# Altium schematic symbol library coral-baseboard.SchLib: 52 symbols
Pins are listed as number, name and electrical type; pins without a type are passive.

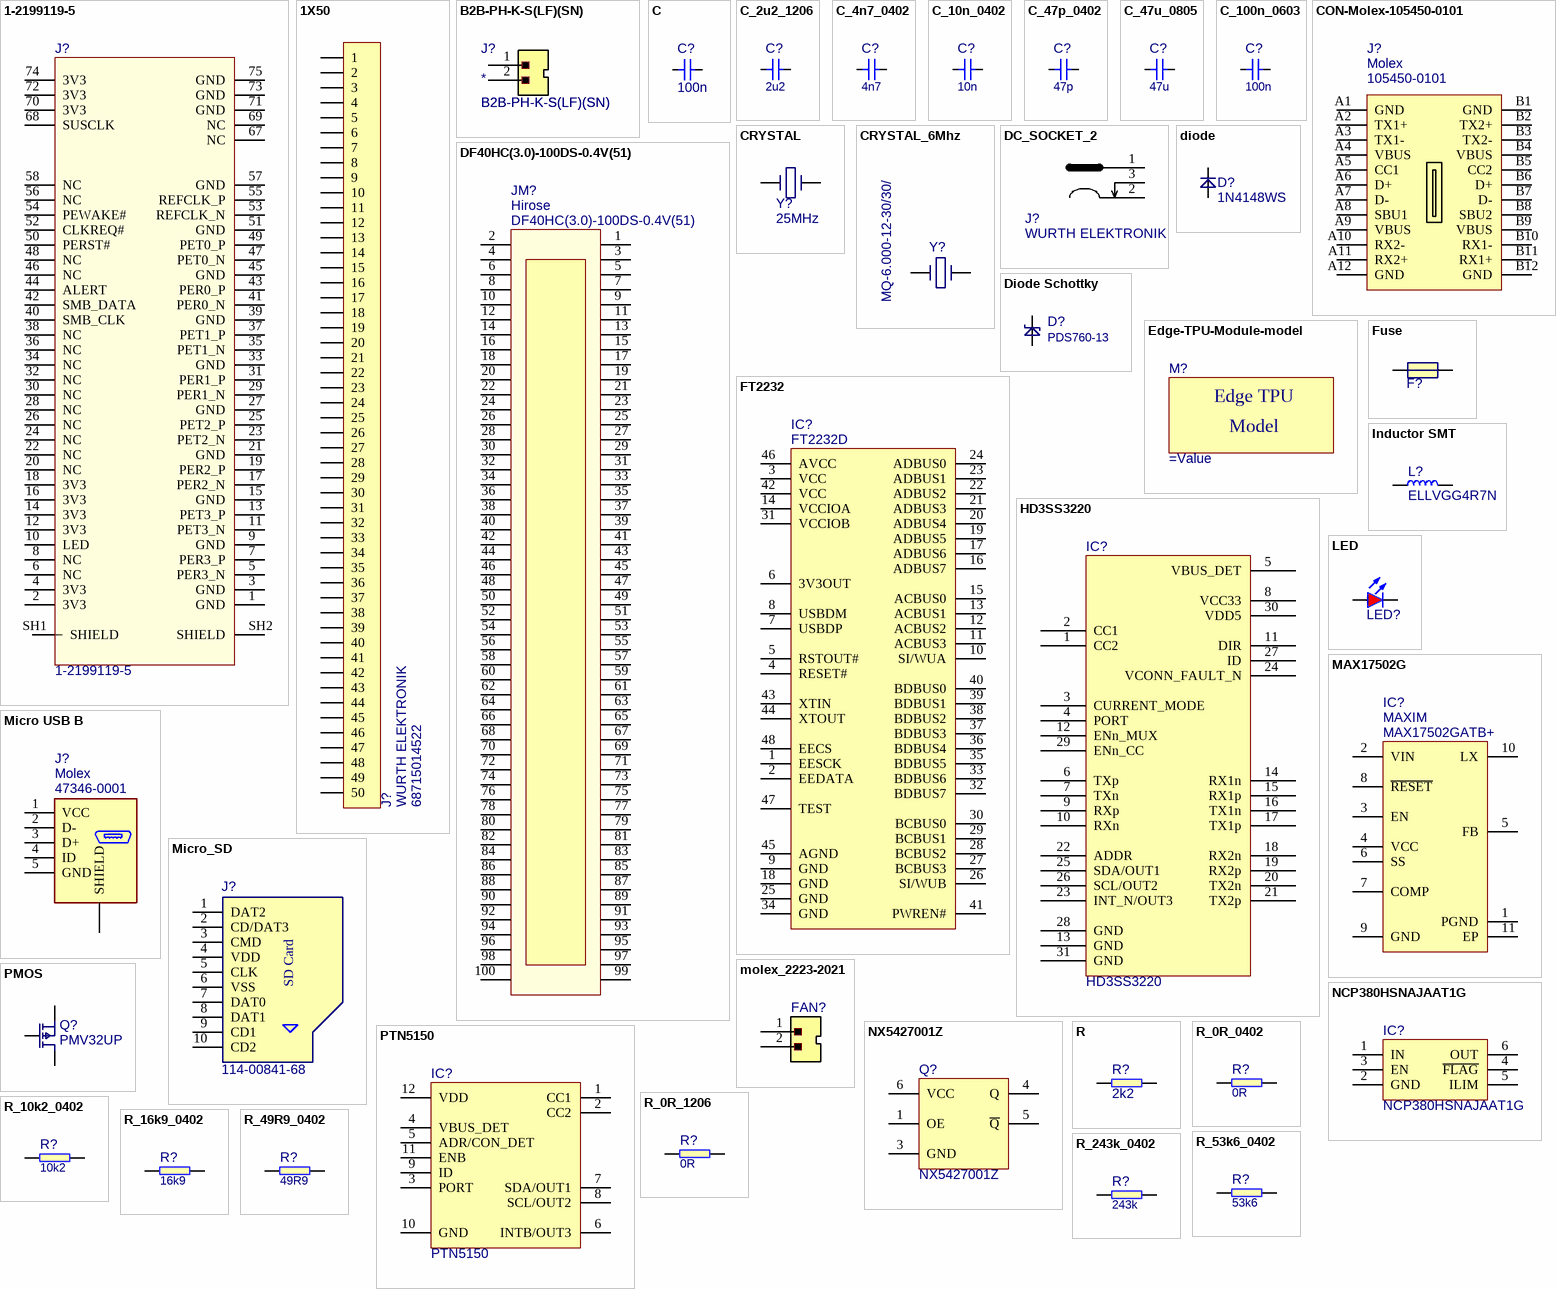
[diagram p0: symbols 1-2199119-5 to R_243k_0402]

## 1-2199119-5
designator J?
CONN FEMALE 67POS 0.020 GOLD; Manufacturer: TE; PartNumber: 1-2199119-5; Value: 1-2199119-5
footprint 1-2199119-5
pins: 1 GND, 2 3V3, 3 GND, 4 3V3, 5 PER3_N, 6 NC, 7 PER3_P, 8 NC, 9 GND, 10 LED, 11 PET3_N, 12 3V3, 13 PET3_P, 14 3V3, 15 GND, 16 3V3, 17 PER2_N, 18 3V3, 19 PER2_P, 20 NC, 21 GND, 22 NC, 23 PET2_N, 24 NC, 25 PET2_P, 26 NC, 27 GND, 28 NC, 29 PER1_N, 30 NC, 31 PER1_P, 32 NC, 33 GND, 34 NC, 35 PET1_N, 36 NC, 37 PET1_P, 38 NC, 39 GND, 40 SMB_CLK, 41 PER0_N, 42 SMB_DATA, 43 PER0_P, 44 ALERT, 45 GND, 46 NC, 47 PET0_N, 48 NC, 49 PET0_P, 50 PERST#, 51 GND, 52 CLKREQ#, 53 REFCLK_N, 54 PEWAKE#, 55 REFCLK_P, 56 NC, 57 GND, 58 NC, 67 NC, 68 SUSCLK, 69 NC, 70 3V3, 71 GND, 72 3V3, 73 GND, 74 3V3, 75 GND, SH1 SHIELD, SH2 SHIELD

## 1X50
designator J?, comment 68715014522  Manufacturer: WURTH ELEKTRONIK
0.50mm SMT ZIF Horizontal Bottom Contact WR-FPC; Value: 68715014522; PartNumber: 68715014522
footprint 68715014522
pins: 1, 2, 3, 4, 5, 6, 7, 8, 9, 10, 11, 12, 13, 14, 15, 16, 17, 18, 19, 20, 21, 22, 23, 24, 25, 26, 27, 28, 29, 30, 31, 32, 33, 34, 35, 36, 37, 38, 39, 40, 41, 42, 43, 44, 45, 46, 47, 48, 49, 50

## B2B-PH-K-S(LF)(SN)
designator J?  value B2B-PH-K-S(LF)(SN)  PartNumber: B2B-PH-K-S(LF)(SN)
Manufacturer: JST
footprint B2B-PH-K-S(LF)(SN) (CONN HEADER VERT 2POS 2MM)
pins: 1, 2

## C
designator C?, comment 100n
MLCC SMT Capacitor 100nF 0402; PartNumber: C_100n_0402; Value: 100n
footprint 0402
pins: 1, 2
1 alternate drawing of the same symbol

## C_2u2_1206
designator C?, comment 2u2
MLCC SMT Capacitor 2.2uF 1206; PartNumber: C_2u2_1206; Value: 2u2
footprint 1206
pins: 1, 2
1 alternate drawing of the same symbol

## C_4n7_0402
designator C?, comment 4n7
MLCC SMT Capacitor 4.7 nF 0402; PartNumber: C_4n7_0402; Value: 4n7
footprint 0402
pins: 1, 2
1 alternate drawing of the same symbol

## C_10n_0402
designator C?, comment 10n
MLCC SMT Capacitor 10 nF 0402; PartNumber: C_10n_0402; Value: 10n
footprint 0402
pins: 1, 2
1 alternate drawing of the same symbol

## C_47p_0402
designator C?, comment 47p
MLCC SMT Capacitor 47pF 0402; PartNumber: C_47p_0402; Value: 47p
footprint 0402
pins: 1, 2
1 alternate drawing of the same symbol

## C_47u_0805
designator C?, comment 47u
MLCC SMT Capacitor 47uF 0805; PartNumber: C_47u_0805; Value: 47u
footprint 0805
pins: 1, 2
1 alternate drawing of the same symbol

## C_100n_0603
designator C?, comment 100n
MLCC SMT Capacitor 100nF 0603; PartNumber: C_100n_0603; Value: 100n
footprint 0603 (Chip Inductor Ferrite Bead 0603)
pins: 1, 2
1 alternate drawing of the same symbol

## CON-Molex-105450-0101
designator J?, comment 105450-0101  Manufacturer: Molex
USB-C connector; PartNumber: 105450-0101; Value: 105450-0101
footprint CON-Molex-105450-0101
pins: A1 GND, A2 TX1+, A3 TX1-, A4 VBUS, A5 CC1, A6 D+, A7 D-, A8 SBU1, A9 VBUS, A10 RX2-, A11 RX2+, A12 GND, B1 GND, B2 TX2+, B3 TX2-, B4 VBUS, B5 CC2, B6 D+, B7 D-, B8 SBU2, B9 VBUS, B10 RX1-, B11 RX1+, B12 GND

## CRYSTAL
designator Y?, comment 25MHz
CRYSTAL, 25.000MHZ; PartNumber: CRYSTAL_25MHz_SMD_TXC; Manufacturer: TXC; Value: 25MHz
footprint TXC_7A
pins: 1, 2

## CRYSTAL_6Mhz
designator Y?, comment MQ-6.000-12-30/30/
CRYSTAL, 6MHZ, 12PF, SMD,30ppm; PartNumber: CRYSTAL_6_MHz_SMD; Manufacturer: MERCURY UNITED ELECTRONICS; Value: MQ-6.000-12-30/30/
footprint Crystal_5x7mm
pins: 1, 3

## DC_SOCKET_2
designator J?, comment Manufacturer: WURTH ELEKTRONIK  (hidden comment: 694106106102)
DC Power Jack Right Angled SMT Ø6.4 with 4 soldering pads & pegs WR-DC; Value: 694106106102; PartNumber: 694106106102
footprint 694106106102
pins: 1, 2, 3

## DF40HC(3.0)-100DS-0.4V(51)
designator JM?  Manufacturer: Hirose
CONN RCPT 100POS 0.4MM SMD GOLD; PartNumber: DF40HC(3.0)-100DS-0.4V(51); Value: DF40HC(3.0)-100DS-0.4V(51)
footprint DF40HC(3.0)-100DS-0.4V(51)
pins: 1 ETH_VDD, 2 1, 3 ETH_T_N, 4 2, 5 ETH_T_P, 6 3, 7 ETH_L1_C, 8 GND, 9 GND, 10 PB15, 11 BATT_P, 12 PB14, 13 BATT_P, 14 NRST, 15 USB_VBUS, 16 PE10, 17 USB_VBUS, 18 PE9, 19 CHRG_NTC, 20 PD14, 21 1V8, 22 PD15, 23 PE7, 24 PC6, 25 PE8, 26 PA8, 27 PD1, 28 GND, 29 PD0, 30 PA9, 31 PD5, 32 PA10, 33 PD4, 34 PC10, 35 PD7, 36 PA15, 37 PF0, 38 PC11, 39 GND, 40 PC12, 41 RST_JTAG_O, 42 PB10, 43 PB3, 44 PB4, 45 PA14, 46 PG9, 47 PA13, 48 GND, 49 PI2, 50 BOOT0, 51 PI3, 52 PC8, 53 PA12, 54 PB6, 55 PA11, 56 PB7, 57 PI0, 58 PB5, 59 PD6, 60 PI1, 61 PC7, 62 PB12, 63 PG7, 64 GND, 65 PG6, 66 BOOT1, 67 PD3, 68 PG11, 69 PG10, 70 PH15, 71 PG12, 72 PH12, 73 PH13, 74 PH8, 75 PH9, 76 PI5, 77 GND, 78 PI6, 79 PB8, 80 ETH_R_N, 81 PB8, 82 PB8, 83 PB8, 84 PB8, 85 PB8, 86 PB8, 87 PB8, 88 PB8, 89 PB8, 90 PB8, 91 PB8, 92 PB8, 93 PB8, 94 PB8, 95 PB8, 96 PB8, 97 PB8, 98 PB8, 99 PB8, 100 PB8

## diode
designator D?, comment 1N4148WS
Diode small signal; Manufacturer: MULTICOMP; Value: 1N4148WS; PartNumber: 1N4148WS
footprint SOD-323
pins: A, C

## Diode Schottky
designator D?, comment PDS760-13
DIODE SCHOTTKY 60V 7A POWERDI5; Manufacturer: DIODES INC.; PartNumber: PDS760-13; Value: PDS760-13
footprint PowerDI
pins: A, C

## Edge-TPU-Module-model
designator M?
Edge TPU SOM; PartNumber: Edge-TPU-SOM-model
footprint Edge-TPU-SOM-model
text: Edge TPU; Model

## FT2232
designator IC?, comment FT2232D
Dual USB-UART/FIFO; Manufacturer: FTDI; Value: FT2232D; PartNumber: FT2232D
footprint LQFP-48
pins: 1 EESCK, 2 EEDATA, 3 VCC, 4 RESET#, 5 RSTOUT#, 6 3V3OUT, 7 USBDP, 8 USBDM, 9 GND, 10 SI/WUA, 11 ACBUS3, 12 ACBUS2, 13 ACBUS1, 14 VCCIOA, 15 ACBUS0, 16 ADBUS7, 17 ADBUS6, 18 GND, 19 ADBUS5, 20 ADBUS4, 21 ADBUS3, 22 ADBUS2, 23 ADBUS1, 24 ADBUS0, 25 GND, 26 SI/WUB, 27 BCBUS3, 28 BCBUS2, 29 BCBUS1, 30 BCBUS0, 31 VCCIOB, 32 BDBUS7, 33 BDBUS6, 34 GND, 35 BDBUS5, 36 BDBUS4, 37 BDBUS3, 38 BDBUS2, 39 BDBUS1, 40 BDBUS0, 41 PWREN#, 42 VCC, 43 XTIN, 44 XTOUT, 45 AGND, 46 AVCC, 47 TEST, 48 EECS

## Fuse
designator F?, comment Value  (value not drawn)
PTC RESET 6V LO RHO 1206 4.50A; PartNumber: 1206L450SLWR; Manufacturer: LITTELFUSE; Value: 1206L450SLWR
footprint Fuse-1206
pins: 1, 2

## HD3SS3220
designator IC?
IC DRP PORT CTLR USB-C 30WQFN; Manufacturer: Texas Instruments; PartNumber: HD3SS3220; Value: HD3SS3220
footprint RNH0030A
pins: 1 CC2, 2 CC1, 3 CURRENT_MODE, 4 PORT, 5 VBUS_DET, 6 TXp, 7 TXn, 8 VCC33, 9 RXp, 10 RXn, 11 DIR, 12 ENn_MUX, 13 GND, 14 RX1n, 15 RX1p, 16 TX1n, 17 TX1p, 18 RX2n, 19 RX2p, 20 TX2n, 21 TX2p, 22 ADDR, 23 INT_N/OUT3, 24 VCONN_FAULT_N, 25 SDA/OUT1, 26 SCL/OUT2, 27 ID, 28 GND, 29 ENn_CC, 30 VDD5, 31 GND

## Inductor SMT
designator L?, comment ELLVGG4R7N
PANASONIC ELECTRONIC COMPONENTS  ELLVGG4R7N  Surface Mount Power Inductor, Choke Coil, ELL-VGG Series, 4.7 ?H, ? 30%, Shielded, 0.17 ohm, 980 mA; Manufacturer: PANASONIC ELECTRONIC COMPONENTS / ELLVGG4R7N / PANASONIC ELECTRONIC COMPONENTS; PartNumber: ELLVGG4R7N; Value: ELLVGG4R7N
footprint ELLVGG4R7N
pins: 1, 2

## LED
designator LED?, comment KPT-1608EC  (value not drawn)
LED Red 0603 case; Manufacturer: KINGBRIGHT; Value: KPT-1608EC; PartNumber: KPT-1608EC
footprint LED0603
pins: A, K

## MAX17502G
designator IC?, comment MAX17502GATB+  Manufacturer: MAXIM
DC-DC Switching (Step Down) Regulator, Adjustable, 600 kHz, 4.5V-60Vin, 0.9V-55.2V/1 A out, TDFN-10; Value: MAX17502GATB+; PartNumber: MAX17502GATB+
footprint 10-TDFN
pins: 1 PGND, 2 VIN, 3 EN, 4 VCC, 5 FB, 6 SS, 7 COMP, 8 ~{RESET}, 9 GND, 10 LX, 11 EP

## Micro USB B
designator J?, comment Manufacturer: Molex  (hidden comment: 47346-0001)
USB - micro B Receptacle Connector 5 Position Surface Mount, Right Angle, Horizontal; PartNumber: 47346-0001; Value: 47346-0001
footprint CON-Molex-047346-0001
pins: 1 VCC (power), 2 D-, 3 D+, 4 ID, 5 GND (power), S SHIELD

## Micro_SD
designator J?, comment 114-00841-68
Micro SD card holder; Manufacturer: AMPHENOL COMMERCIAL PRODUCTS; Value: 114-00841-68; PartNumber: 114-00841-68
footprint 114-00841-68
pins: 1 DAT2, 2 CD/DAT3, 3 CMD, 4 VDD, 5 CLK, 6 VSS, 7 DAT0, 8 DAT1, 9 CD1, 10 CD2
text: SD Card

## molex_2223-2021
designator FAN?, comment MX-22-23-2021  (value not drawn)
Pinhead connector with key; Manufacturer: Molex; PartNumber: 022232021 A-6373-02A222; Value: MX-22-23-2021
footprint molex_2223-2021
pins: 1, 2

## NCP380HSNAJAAT1G
designator IC?
POWER LOAD SWITCH, HIGH SIDE; Manufacturer: ON Semiconductor; Value: NCP380HSNAJAAT1G; PartNumber: NCP380HSNAJAAT1G
footprint TSOP-6
pins: 1 IN, 2 GND, 3 EN, 4 ~{FLAG}, 5 ILIM, 6 OUT

## NX5427001Z
designator Q?
CLOCK SAW OSCILLATOR SEAM5032; Manufacturer: Diodes Incorporated; PartNumber: NX5427001Z; Value: NX5427001Z
footprint NX5427001Z
pins: 1 OE, 3 GND, 4 Q, 5 ~{Q}, 6 VCC

## PMOS
designator Q?, comment PMV32UP
P CH, 20V, 4A; Manufacturer: NXP; PartNumber: PMV32UP; Value: PMV32UP
footprint SOT-23
pins: 1 G, 2 S, 3 D

## PTN5150
designator IC?
CC logic for USB Type-C applications; Manufacturer: NXP; PartNumber: PTN5150; Value: PTN5150
footprint PTN5150
pins: 1 CC1, 2 CC2, 3 PORT, 4 VBUS_DET, 5 ADR/CON_DET, 6 INTB/OUT3, 7 SDA/OUT1, 8 SCL/OUT2, 9 ID, 10 GND, 11 ENB, 12 VDD

## R
designator R?, comment 2k2
RES, 2k2, 0402, 5%; PartNumber: R_2k2_0402; Value: 2k2
footprint 0402
pins: 1, 2

## R_0R_0402
designator R?, comment 0R
RES, 0R, 0402; PartNumber: R_0R_0402; Value: 0R
footprint 0402
pins: 1, 2

## R_0R_1206
designator R?, comment 0R
RES, 0R, 1206; PartNumber: R_0R_1206; Value: 0R
footprint 1206
pins: 1, 2

## R_10k2_0402
designator R?, comment 10k2
RES, 10k2, 0402, 0.1%; PartNumber: R_10k2_0402_0.1%; Value: 10k2
footprint 0402
pins: 1, 2

## R_16k9_0402
designator R?, comment 16k9
RES, 16k9, 0402; PartNumber: R_16k9_0402; Value: 16k9
footprint 0402
pins: 1, 2

## R_49R9_0402
designator R?, comment 49R9
RES, 49R9, 0402; PartNumber: R_49R9_0402; Value: 49R9
footprint 0402
pins: 1, 2

## R_53k6_0402
designator R?, comment 53k6
RES, 53k6, 0402; PartNumber: R_53k6_0402; Value: 53k6
footprint 0402
pins: 1, 2

## R_243k_0402
designator R?, comment 243k
RES, 243k, 0402; PartNumber: R_243k_0402; Value: 243k
footprint 0402
pins: 1, 2

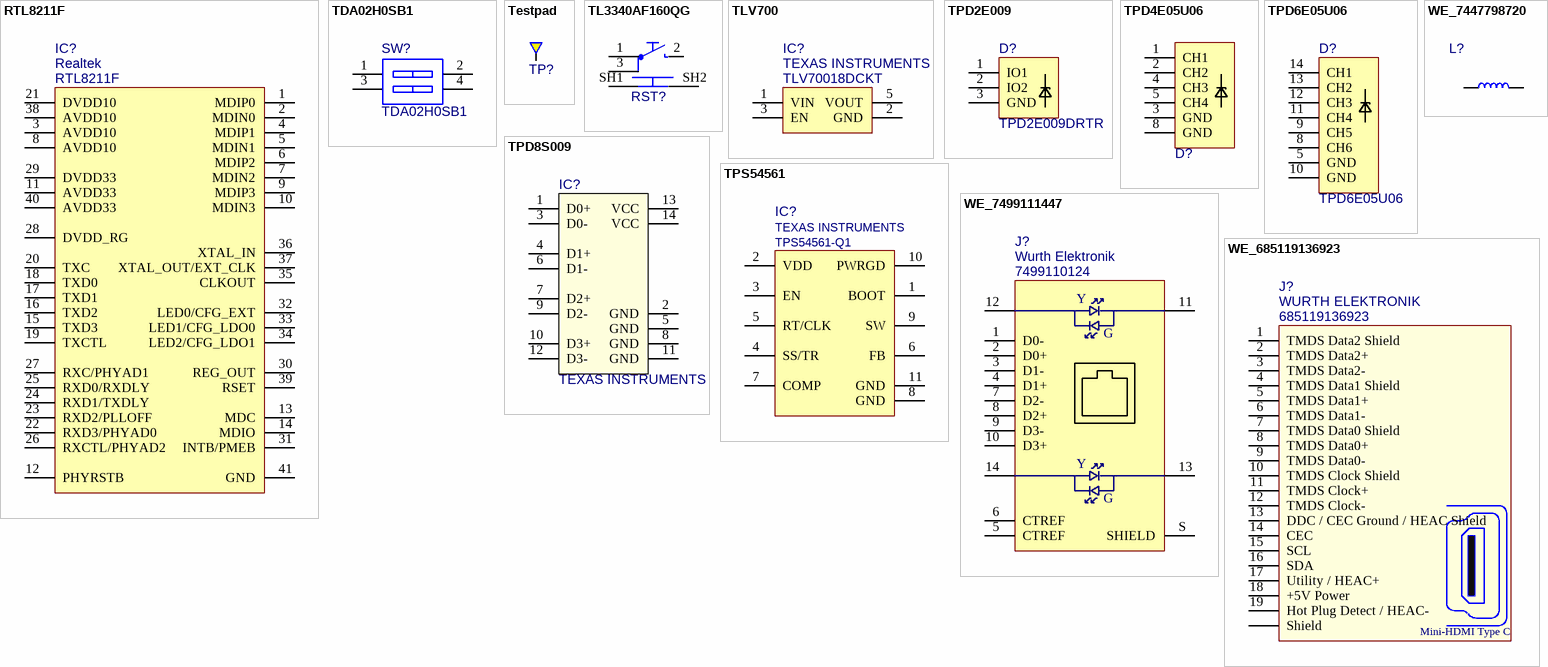
[diagram p1: symbols RTL8211F to WE_685119136923]

## RTL8211F
designator IC?  Manufacturer: Realtek
Highly Integrated 10/100/1000m Ethernet Transceiver; PartNumber: RTL8211F; Value: RTL8211F
footprint RTL8211F
pins: 1 MDIP0, 2 MDIN0, 3 AVDD10, 4 MDIP1, 5 MDIN1, 6 MDIP2, 7 MDIN2, 8 AVDD10, 9 MDIP3, 10 MDIN3, 11 AVDD33, 12 PHYRSTB, 13 MDC, 14 MDIO, 15 TXD3, 16 TXD2, 17 TXD1, 18 TXD0, 19 TXCTL, 20 TXC, 21 DVDD10, 22 RXD3/PHYAD0, 23 RXD2/PLLOFF, 24 RXD1/TXDLY, 25 RXD0/RXDLY, 26 RXCTL/PHYAD2, 27 RXC/PHYAD1, 28 DVDD_RG, 29 DVDD33, 30 REG_OUT, 31 INTB/PMEB, 32 LED0/CFG_EXT, 33 LED1/CFG_LDO0, 34 LED2/CFG_LDO1, 35 CLKOUT, 36 XTAL_IN, 37 XTAL_OUT/EXT_CLK, 38 AVDD10, 39 RSET, 40 AVDD33, 41 GND

## TDA02H0SB1
designator SW?
TDA02H0SB1 - DIP / SIP Switch, 2 Circuits, SPST, SMD, TDA Series, DIP, 24 V; Manufacturer: C & K COMPONENTS; Value: TDA02H0SB1
footprint TDA02H0SB1
pins: 1, 2, 3, 4

## Testpad
designator TP?  (value not drawn)  (no BOM)
Testpad, round, 1.5mm; PartNumber: Testpad
footprint TP-R-1.5
pins: 1

## TL3340AF160QG
designator RST?  (value not drawn)
E-SWITCH  TL3340AF160QG  SWITCH, TACTILE SPST 50mA, SMD GULL WING; Value: TL3340AF160QG; Manufacturer: E-SWITCH
footprint TL3340AF160QG
pins: 1, 2, 3, SH1, SH2

## TLV700
designator IC?, comment TLV70018DCKT  Manufacturer: TEXAS INSTRUMENTS
Voltage Regulator, 2V to 5.5V, 175mV Dropout, 1.8Vout, 200mAout; PartNumber: TLV70018DCKT; Value: TLV70018DCKT
footprint SC70-5
pins: 1 VIN, 2 GND, 3 EN, 5 VOUT

## TPD2E009
designator D?, comment TPD2E009DRTR
ESD Suppressors 2-CH; Manufacturer: Texas Instruments; Value: TPD2E009DRTR; PartNumber: TPD2E009DRTR
footprint SOT-3
pins: 1 IO1, 2 IO2, 3 GND

## TPD4E05U06
designator D?  (value not drawn)
ESD Suppressors 4-CH; Manufacturer: Texas Instruments; PartNumber: TPD4E05U06; Value: TPD4E05U06
footprint TPD4E05U06_PASS
pins: 1 CH1, 2 CH2, 3 GND, 4 CH3, 5 CH4, 8 GND

## TPD6E05U06
designator D?
ESD Suppressors 6-CH Pass through layout; Manufacturer: Texas Instruments; PartNumber: TPD6E05U06; Value: TPD6E05U06
footprint TPD6E05U06_PASS
pins: 5 GND, 8 CH6, 9 CH5, 10 GND, 11 CH4, 12 CH3, 13 CH2, 14 CH1

## TPD8S009
designator IC?  Manufacturer: TEXAS INSTRUMENTS  (hidden comment: TPD8S009)
8-Channel ESD Protection for DisplayPort and HDMI; Value: TPD8S009; PartNumber: TPD8S009
footprint SON-15
pins: 1 D0+, 2 GND, 3 D0-, 4 D1+, 5 GND, 6 D1-, 7 D2+, 8 GND, 9 D2-, 10 D3+, 11 GND, 12 D3-, 13 VCC, 14 VCC
1 alternate drawing of the same symbol

## TPS54561
designator IC?, comment TPS54561-Q1  Manufacturer: TEXAS INSTRUMENTS
IC REG BCK SPLIT RAIL ADJ 10WSON; PartNumber: TPS54561-Q1; Value: TPS54561-Q1
footprint WSON-10_4x4
pins: 1 BOOT, 2 VDD, 3 EN, 4 SS/TR, 5 RT/CLK, 6 FB, 7 COMP, 8 GND, 9 SW, 10 PWRGD, 11 GND

## WE_7447798720
designator L?, comment 7447798720  (value not drawn)
Fixed Inductors WE-PDF 1064 7.2uH 7.9A 12.8mOhm; Manufacturer: WURTH ELEKTRONIK; PartNumber: 7447798720; Value: 7447798720
footprint WE_7447798720
pins: 1, 2

## WE_7499111447
designator J?, comment Manufacturer: Wurth Elektronik  (hidden comment: 7499110124)
LAN-Transformer WE-RJ45LAN 10/100/1000 BaseT; PartNumber: 7499110124; Value: 7499110124
footprint WE_7499110124
pins: 1 D0-, 2 D0+, 3 D1-, 4 D1+, 5 CTREF, 6 CTREF, 7 D2-, 8 D2+, 9 D3-, 10 D3+, 11, 12, 13, 14, S SHIELD
text: Y; G

## WE_685119136923
designator J?, comment 685119136923  Manufacturer: WURTH ELEKTRONIK
CONN HDMI FEMALE R/A 19POS 2.6MM; PartNumber: 685119136923; Value: 685119136923
footprint WE_685119136923
pins: 1 TMDS Data2 Shield, 2 TMDS Data2+, 3 TMDS Data2-, 4 TMDS Data1 Shield, 5 TMDS Data1+, 6 TMDS Data1-, 7 TMDS Data0 Shield, 8 TMDS Data0+, 9 TMDS Data0-, 10 TMDS Clock Shield, 11 TMDS Clock+, 12 TMDS Clock-, 13 DDC / CEC Ground / HEAC Shield, 14 CEC, 15 SCL, 16 SDA, 17 Utility / HEAC+, 18 +5V Power, 19 Hot Plug Detect / HEAC-, Shell Shield
text: Mini-HDMI Type C